# Altium integrated library MMBT2222.IntLib: 1 symbol
Pins are listed as number, name and electrical type; pins without a type are passive.

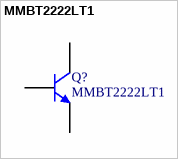
[diagram p0: symbol MMBT2222LT1]

## MMBT2222LT1
designator Q?
General Purpose Transistor NPN Silicon; Manufacturer: Motorola; Class: Discrete; SubClass: BJT - Low Power; Code: PPF200; Published: 29/09/2000; Publisher: Altium Hobart Technology Centre
footprint SO-G3/C2.5
pins: 1 B, 2 E, 3 C